# Altium footprint library PcbLib1.PcbLib: 17 footprints (part 1 of 2)
Each footprint in its own frame and in the unit in brackets; x right, y up, seen from the top. Pads: shape width x height; smd on the part's side, far side on the other; paste and mask are expansions set on the pad; w line width, h text height; cw(c..) or ccw(c..) is an arc to the next point about the centre after c.
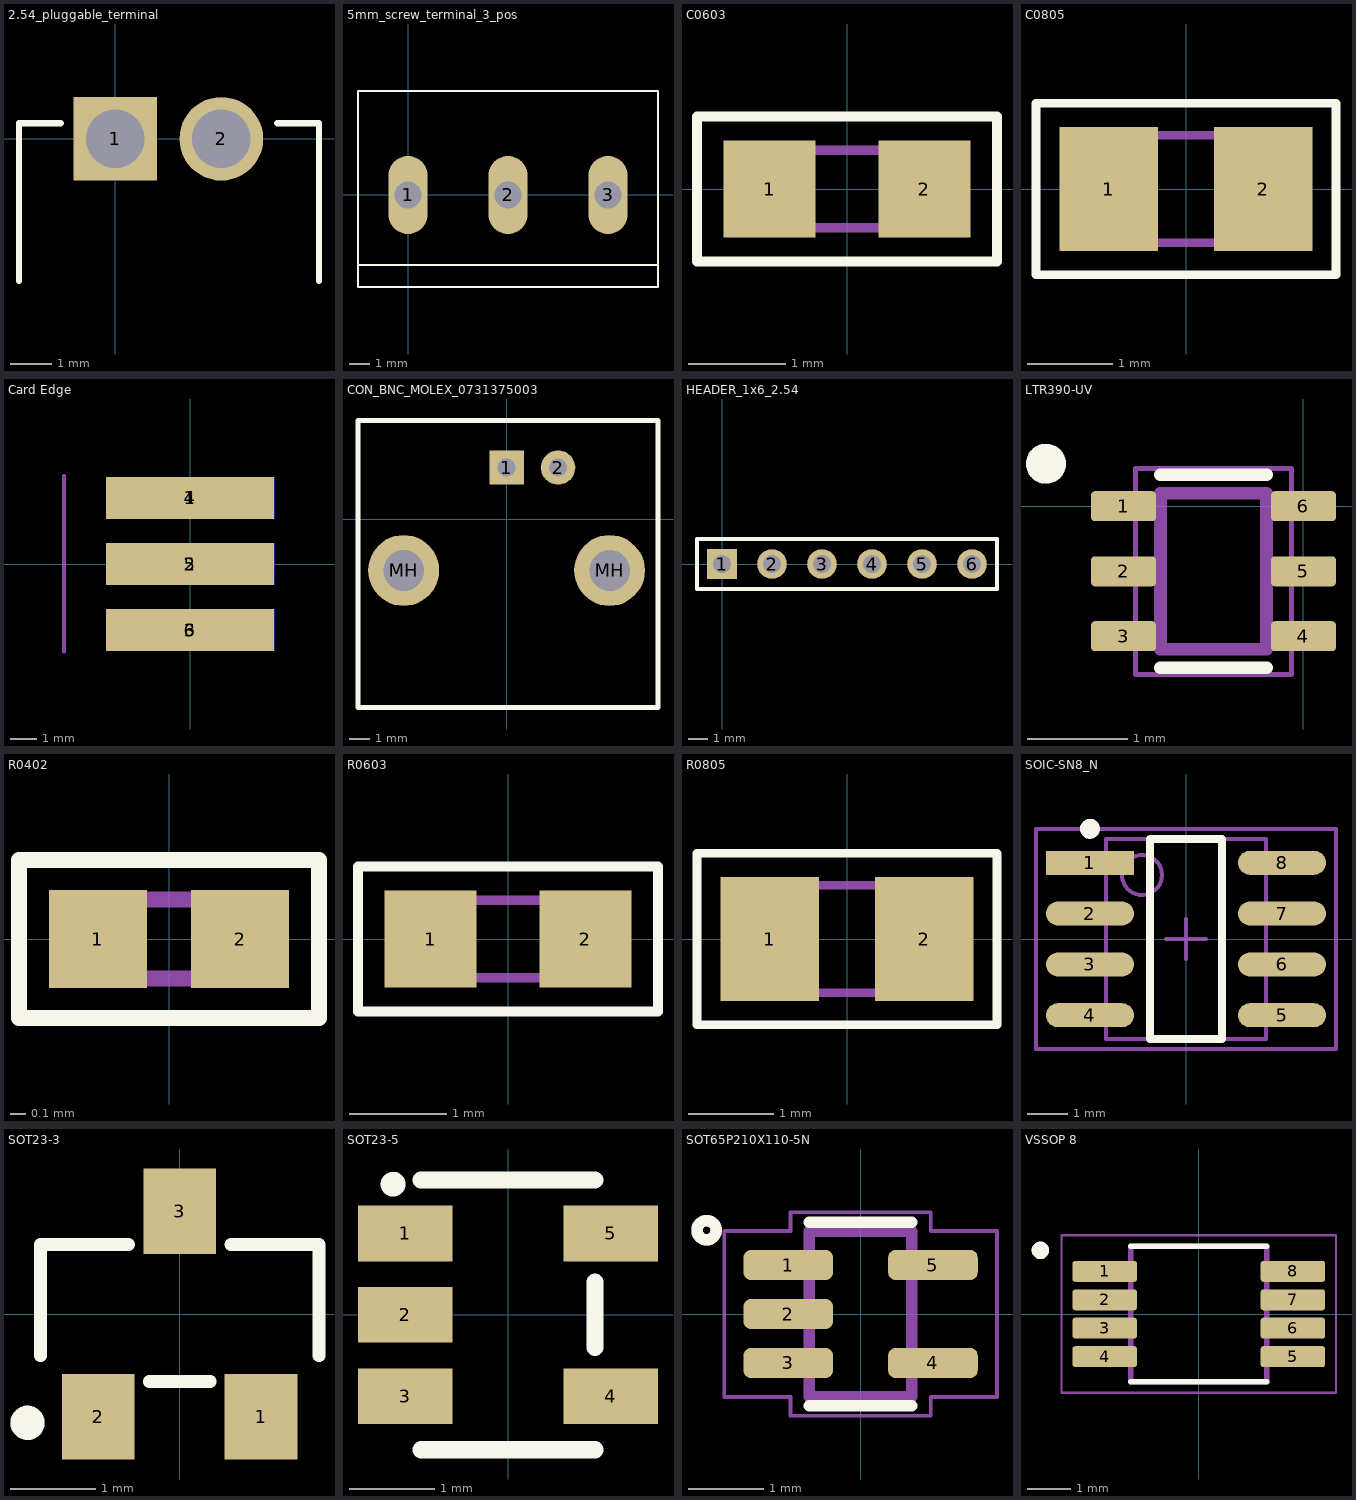
[diagram p0: the footprints below, top view; thin cyan lines are the x and y axes]

## 2.54_pluggable_terminal [mm] "Connector; Header; 2 Position"
pads (2):
  rect 2x2 hole 1.4: 1(0,0)
  round 2 hole 1.4: 2(2.54,0)
Top Overlay:
  lines w0.15: -2.3,-3.4 -2.3,0.375 -1.3,0.375 ; 3.875,0.375 4.875,0.375 4.875,-3.4
3D body "plugin_female.step": height 8.1, standoff -3.5, extent -2.17,-9.95 4.77,0.35

## 5mm_screw_terminal_3_pos [mm]
pads (3):
  oval 1.95x3.9 hole 1.35: 1(0,0) 2(5,0) 3(10,0)
Top Overlay:
  lines w0.1: -2.5,-3.5 -2.5,-4.6 12.5,-4.6 12.5,-3.5 ; -2.5,-3.5 -2.5,5.2 12.5,5.2 12.5,-3.5 ; -2.5,-3.5 12.5,-3.5
3D body "step_temp.STEP": height 13.9, standoff -3.7, extent -3.086,-4.643 12.484,5.207

## C0603 [mm] "Chip Capacitor; Body 1.6 x 0.8 mm (LxW typ)"
height 0.87
pads (2):
  rect 0.95x1 smd mask+0.05: 1(-0.8,0) 2(0.8,0)
Top Overlay:
  lines w0.1: -1.55,-0.75 1.55,-0.75 1.55,0.75 -1.55,0.75 -1.55,-0.75
Mechanical 15:
  lines w0.1: -0.8,-0.4 -0.8,0.4 0.8,0.4 0.8,-0.4 -0.8,-0.4
3D body "C0603.step": height 0.8, standoff 0, extent -0.8,-0.4 0.8,0.4

## C0805 [mm] "Chip Capacitor; Body 2.0 x 1.2 mm (LxW typ)"
height 1.3
pads (2):
  rect 1.15x1.45 smd mask+0.05: 1(-0.9,0) 2(0.9,0)
Top Overlay:
  lines w0.1: -1.75,-1 1.75,-1 1.75,1 -1.75,1 -1.75,-1
Mechanical 15:
  lines w0.1: -1,-0.625 -1,0.625 1,0.625 1,-0.625 -1,-0.625
3D body "C0805.step": height 0.61, standoff -0.01, extent -1.01,-0.635 1.01,0.635

## Card Edge [mm]
pads (6):
  rect 6.46x1.6 smd: 1(0,2.54) 2(0,0) 3(0,-2.54)
  rect 6.46x1.6 smd far side: 4(0,2.54) 5(0,0) 6(0,-2.54)
Mechanical 15:
  lines w0.15: -4.85,-3.365 -4.85,3.385
  text "PCB Edge" at -3.758,-3.09 h1.5

## CON_BNC_MOLEX_0731375003 [mm]
pads (4):
  rect 1.7x1.7 hole 0.9: 1(0,2.54)
  round 1.7 hole 0.9: 2(2.54,2.54)
  round 3.5 hole 2: MH(-5.08,-2.54) MH(5.08,-2.54)
Top Overlay:
  lines w0.25: -7.33,-9.3 7.47,-9.3 7.47,4.86 -7.33,4.86 -7.33,-9.3
Mechanical 2:
  text "PCB Edge" at -1.2,-12.1 h2
3D body "73100-0131.STEP": height 13.25, standoff -4.98, extent -7.38,-30.315 7.38,4.865

## HEADER_1x6_2.54 [mm] "Connector; Header; 6 Position"
pads (6):
  rect 1.5x1.5 hole 0.9: 1(0,0)
  round 1.5 hole 0.9: 2(2.54,0) 3(5.08,0) 4(7.62,0) 5(10.16,0) 6(12.7,0)
Top Overlay:
  lines w0.2: -1.27,-1.27 13.97,-1.27 13.97,1.27 -1.27,1.27 -1.27,-1.27
3D body "User Library-Header_Male_6Pin.STEP": height 8.54, standoff -3, extent -1.27,-1.245 13.97,1.245

## LTR390-UV [mm]
pads (6):
  rrect25% 0.65x0.3 smd: 1(-1.8,0) 2(-1.8,-0.65) 3(-1.8,-1.3) 4(0,-1.3) 5(0,-0.65) 6(0,0)
Top Overlay:
  circle w0.2: c-2.575,0.425 r0.1
  lines w0.127: -1.43,-1.614 -0.37,-1.614 ; -1.43,0.314 -0.37,0.314
Mechanical 13:
  lines w0.127: -1.43,-1.43 -0.37,-1.43 -0.37,0.13 -1.43,0.13 -1.43,-1.43
Mechanical 15:
  lines w0.05: -1.68,-1.68 -1.68,0.38 -0.12,0.38 -0.12,-1.68 -1.68,-1.68
3D body "step_temp.STEP": height 0.7, standoff -0.05, extent -1.73,-1.469 -0.08,0.181

## R0402 [mm] "Chip Resistor; Body 1 x 0.5 mm (LxW typ)"
height 0.4
pads (2):
  rect 0.62x0.62 smd mask+0.05: 1(-0.45,0) 2(0.45,0)
Top Overlay:
  lines w0.1: -0.95,-0.5 -0.95,0.5 0.95,0.5 0.95,-0.5 -0.95,-0.5
Mechanical 15:
  lines w0.1: -0.5,-0.25 -0.5,0.25 0.5,0.25 0.5,-0.25 -0.5,-0.25
3D body "R0402.step": height 0.38, standoff 0, extent -0.5,-0.25 0.5,0.25

## R0603 [mm] "Chip Resistor; Body 1.6 x 0.8 mm (LxW typ)"
height 0.87
pads (2):
  rect 0.95x1 smd mask+0.05: 1(-0.8,0) 2(0.8,0)
Top Overlay:
  lines w0.1: -1.55,-0.75 -1.55,0.75 1.55,0.75 1.55,-0.75 -1.55,-0.75
Mechanical 15:
  lines w0.1: -0.8,-0.4 0.8,-0.4 0.8,0.4 -0.8,0.4 -0.8,-0.4
3D body "R0603.step": height 0.79, standoff 0, extent -1,-0.394 1,0.394

## R0805 [mm] "Chip Resistor; Body 2.0 x 1.2 mm (LxW typ)"
height 1.3
pads (2):
  rect 1.15x1.45 smd mask+0.05: 1(-0.9,0) 2(0.9,0)
Top Overlay:
  lines w0.1: -1.75,-1 -1.75,1 1.75,1 1.75,-1 -1.75,-1
Mechanical 15:
  lines w0.1: -1,-0.625 1,-0.625 1,0.625 -1,0.625 -1,-0.625
3D body "R0805.step": height 0.78, standoff 0, extent -1,-0.625 1,0.625

## SOIC-SN8_N [mm] "SOIC, 8-Leads, Body 4.9x3.8mm, Pitch 1.27mm, IPC Medium Density"
height 1.75
pads (8):
  rect 2.2x0.6 smd: 1(-2.4,1.905)
  oval 2.2x0.6 smd: 2(-2.4,0.635) 3(-2.4,-0.635) 4(-2.4,-1.905) 5(2.4,-1.905) 6(2.4,-0.635) 7(2.4,0.635) 8(2.4,1.905)
Top Overlay:
  circle w0.25: c-2.4,2.755 r0.125
  lines w0.2: -0.9,-2.5 0.9,-2.5 0.9,2.5 -0.9,2.5 -0.9,-2.5
Mechanical 13:
  circle w0.1: c-1.1,1.6 r0.5
  lines w0.1: -2,-2.5 2,-2.5 2,2.5 -2,2.5 -2,-2.5
Mechanical 15:
  lines w0.1: -0.5,0 0.5,0 ; 0,-0.5 0,0.5 ; -3.75,-2.75 3.75,-2.75 3.75,2.75 -3.75,2.75 -3.75,-2.75
3D body "User Library-SOIC-8-1.step": height 1.75, standoff 0, extent -3,-2.45 3,2.45

## SOT23-3 [mm] "SOT-23; 3 Leads; Body 3.0 x 2.5 mm, inc. leads (LxW max)"
height 1.1
pads (3):
  rect 0.85x1 smd: 1(0.95,-1.2) 2(-0.95,-1.2) 3(0,1.2)
Top Overlay:
  circle w0.2: c-1.776,-1.27 r0.1
  lines w0.15: -1.626,-0.487 -1.626,0.813 -0.599,0.813 ; -0.356,-0.787 0.356,-0.787 ; 0.599,0.813 1.626,0.813 1.626,-0.487
3D body "SOT-23.step": height 1.05, standoff -0.05, extent -1.5,-1.25 1.5,1.25

## SOT23-5 [mm] "SOT23, 5-Leads, Body 2.9x1.6mm, Pitch 0.95mm, Lead Span 2.7mm, IPC Medium Density"
height 1.45
pads (5):
  rect 1.1x0.65 smd: 1(-1.2,0.95) 2(-1.2,0) 3(-1.2,-0.95) 4(1.2,-0.95) 5(1.2,0.95)
Top Overlay:
  circle w0.15: c-1.34,1.524 r0.07
  lines w0.2: -1.016,1.575 1.012,1.574 ; -1.012,-1.574 1.016,-1.575 ; 1.016,-0.381 1.016,0.381
3D body "SOT-23-5.step": height 1.43, standoff -0.03, extent -1.5,-1.5 1.5,1.5

## SOT65P210X110-5N [mm]
pads (5):
  rrect50% 1.19x0.4 smd: 1(-0.96,0.65) 2(-0.96,0) 3(-0.96,-0.65) 4(0.96,-0.65) 5(0.96,0.65)
Top Overlay:
  lines w0.152: -0.68,-1.219 0.68,-1.219 ; -0.68,1.219 0.68,1.219 ; -2.044,0.985 ccw(c-2.044,1.112) -2.044,1.239 ccw(c-2.044,1.112) -2.044,0.985
Mechanical 13:
  lines w0.152: -2.044,0.985 ccw(c-2.044,1.112) -2.044,1.239 ccw(c-2.044,1.112) -2.044,0.985 ; -0.68,-1.1 0.68,-1.1 0.68,1.1 -0.68,1.1 -0.68,-1.1
Mechanical 15:
  lines w0.05: -1.81,-1.1 -1.81,1.1 -0.93,1.1 -0.93,1.35 0.93,1.35 0.93,1.1 1.81,1.1 1.81,-1.1 0.93,-1.1 0.93,-1.35 -0.93,-1.35 -0.93,-1.1 -1.81,-1.1
3D body "MAX4466EXK.STEP": height 1.1, standoff 0, extent -1.084,-1 1.016,1

## VSSOP 8 [mm]
pads (8):
  rrect25% 1.47x0.48 smd: 1(-2.15,0.975) 2(-2.15,0.325) 3(-2.15,-0.325) 4(-2.15,-0.975) 5(2.15,-0.975) 6(2.15,-0.325) 7(2.15,0.325) 8(2.15,0.975)
Top Overlay:
  circle w0.2: c-3.62,1.455 r0.1
  lines w0.127: -1.55,-1.55 1.55,-1.55 ; -1.55,1.55 1.55,1.55
Mechanical 13:
  circle w0.2: c-3.62,1.455 r0.1
  lines w0.127: -1.55,-1.55 -1.55,1.55 1.55,1.55 1.55,-1.55 -1.55,-1.55
Mechanical 15:
  lines w0.05: -3.135,-1.8 -3.135,1.8 3.135,1.8 3.135,-1.8 -3.135,-1.8
3D body "LMV358IDGKR--3DModel-STEP-56544.STEP": height 1.1, standoff 0, extent -2.431,-1.507 2.469,1.493